# Altium schematic symbol library 9DB433.Schlib: 1 symbol
Pins are listed as number, name and electrical type; pins without a type are passive.

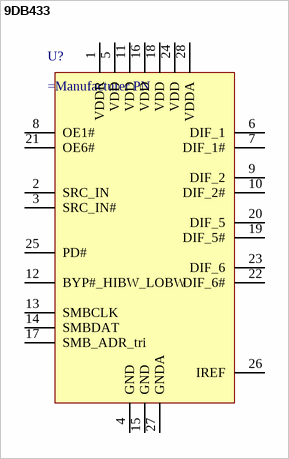
[diagram p0: symbol 9DB433]

## 9DB433
designator U?
PCIe Clock Fanout Buffer 1:4
pins: 1 VDDR, 2 SRC_IN, 3 SRC_IN#, 4 GND, 5 VDD, 6 DIF_1, 7 DIF_1#, 8 OE1#, 9 DIF_2, 10 DIF_2#, 11 VDD, 12 BYP#_HIBW_LOBW, 13 SMBCLK, 14 SMBDAT, 15 GND, 16 VDD, 17 SMB_ADR_tri, 18 VDD, 19 DIF_5#, 20 DIF_5, 21 OE6#, 22 DIF_6#, 23 DIF_6, 24 VDD, 25 PD#, 26 IREF, 27 GNDA, 28 VDDA